# Altium schematic symbol library TESTPAD.SchLib: 1 symbol
Pins are listed as number, name and electrical type; pins without a type are passive.

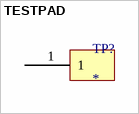
[diagram p0: symbol TESTPAD]

## TESTPAD
designator TP?
TESTPAD
footprint PAD (60x60mil Test Point)
footprint TH_PAD (Through Hole 60x60mil Test Point)
pins: 1